# EAGLE library part PS2502-4 (library optocoupler-3-jcn)
NEC multi darlington optocoupler High isolation voltage Darlington transistor type multi optocoupler type
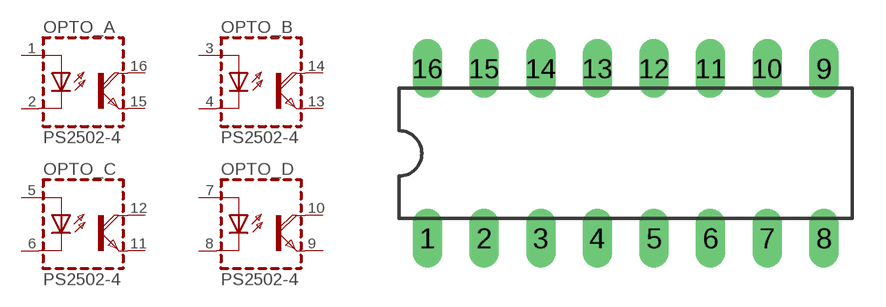
[diagram p46: symbol with the pads of DIL16_2; footprint DIL16_2]

Designator prefix OPTO; gates _A=OK-DT2 _B=OK-DT2 _C=OK-DT2 _D=OK-DT2

## PS2502-4"  [DIL16_2]
1  _A:A  pas
2  _A:C  pas
3  _B:A  pas
4  _B:C  pas
5  _C:A  pas
6  _C:C  pas
7  _D:A  pas
8  _D:C  pas
9  _D:E  pas
10  _D:COL  pas
11  _C:E  pas
12  _C:COL  pas
13  _B:E  pas
14  _B:COL  pas
15  _A:E  pas
16  _A:COL  pas

## Footprint DIL16_2 (pad centres in mm)
drill 0.813 long: 1 -8.89,-3.81; 2 -6.35,-3.81; 3 -3.81,-3.81; 4 -1.27,-3.81; 5 1.27,-3.81; 6 3.81,-3.81; 7 6.35,-3.81; 8 8.89,-3.81; 9 8.89,3.81; 10 6.35,3.81; 11 3.81,3.81; 12 1.27,3.81; 13 -1.27,3.81; 14 -3.81,3.81; 15 -6.35,3.81; 16 -8.89,3.81